# EAGLE library part ADE7913 (library IntegratedLib)
Conversor ADC/SPI de 3 canais (SOIC-20)
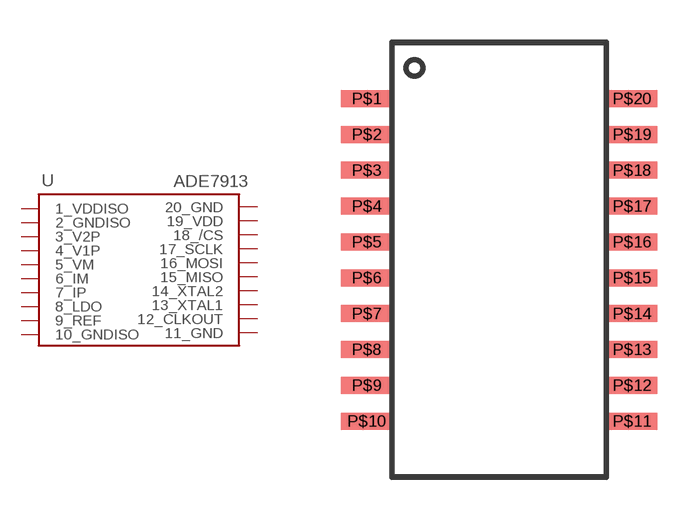
[diagram p45: symbol with the pads of SOIC-20; footprint SOIC-20]

Designator prefix U

## ADE7913 (FABRICANTE: ANALOG DEVICES; PARTNUMBER: ADE7913; TIPO: CIRCUITO INTEGRADO)  [SOIC-20]
P$1  1_VDDISO  pwr
P$2  2_GNDISO  pwr
P$3  3_V2P
P$4  4_V1P
P$5  5_VM
P$6  6_IM
P$7  7_IP
P$8  8_LDO
P$9  9_REF
P$10  10_GNDISO  pwr
P$11  11_GND  pwr
P$12  12_CLKOUT
P$13  13_XTAL1
P$14  14_XTAL2
P$15  15_MISO
P$16  16_MOSI
P$17  17_SCLK
P$18  18_/CS
P$19  19_VDD  pwr
P$20  20_GND  pwr

## Footprint SOIC-20 (pad centres in mm)
smd 1.8 x 0.6: P$1 -4.7,5.715; P$2 -4.7,4.445; P$3 -4.7,3.175; P$4 -4.7,1.905; P$5 -4.7,0.635; P$6 -4.7,-0.635; P$7 -4.7,-1.905; P$8 -4.7,-3.175; P$9 -4.7,-4.445; P$10 -4.7,-5.715; P$11 4.7,-5.715; P$12 4.7,-4.445; P$13 4.7,-3.175; P$14 4.7,-1.905; P$15 4.7,-0.635; P$16 4.7,0.635; P$17 4.7,1.905; P$18 4.7,3.175; P$19 4.7,4.445; P$20 4.7,5.715